# Altium footprint library PAM2306AYPKE.PcbLib: 1 footprints
Each footprint in its own frame and in the unit in brackets; x right, y up, seen from the top. Pads: shape width x height; smd on the part's side, far side on the other; paste and mask are expansions set on the pad; w line width, h text height; cw(c..) or ccw(c..) is an arc to the next point about the centre after c.
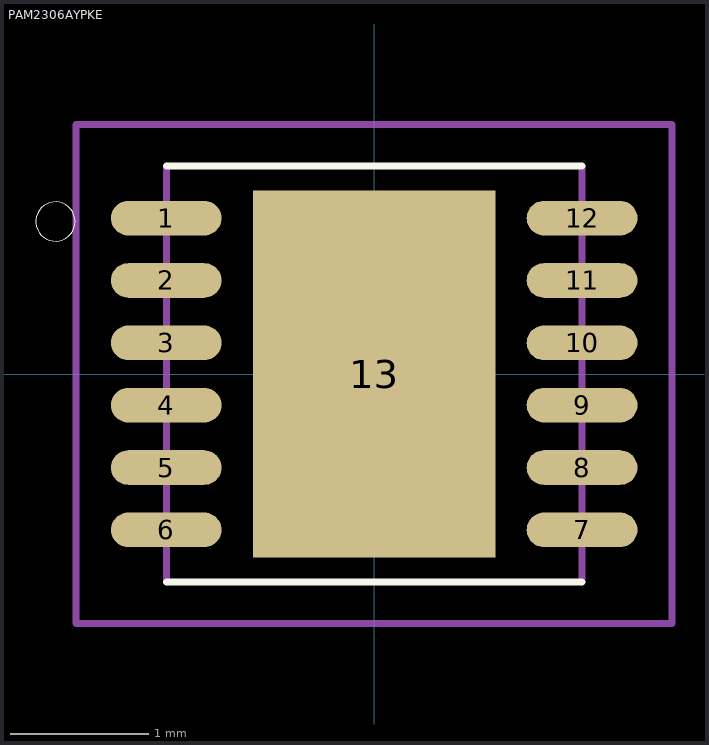
[diagram p0: the footprint, top view; thin cyan lines are the x and y axes]

## PAM2306AYPKE [mm]
pads (13):
  oval 0.8x0.25 smd: 1(-1.5,1.125) 2(-1.5,0.675) 3(-1.5,0.225) 4(-1.5,-0.225) 5(-1.5,-0.675) 6(-1.5,-1.125) 7(1.5,-1.125) 8(1.5,-0.675) 9(1.5,-0.225) 10(1.5,0.225) 11(1.5,0.675) 12(1.5,1.125)
  rect 1.75x2.65 smd: 13(0,0)
Top Overlay:
  circle w0: c-2.3,1.1 r0.141
  lines w0.05: -1.5,-1.5 1.5,-1.5 ; -1.5,1.5 1.5,1.5
Mechanical 13:
  lines w0.05: -1.5,-1.5 -1.5,1.5 ; 1.5,-1.5 1.5,1.5
Mechanical 15:
  lines w0.05: -2.15,-1.8 -2.15,1.8 2.15,1.8 2.15,-1.8 -2.15,-1.8